# Altium schematic symbol library P6SMB18CA-Q.SchLib: 1 symbol
Pins are listed as number, name and electrical type; pins without a type are passive.

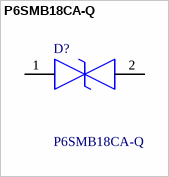
[diagram p0: symbol P6SMB18CA-Q]

## P6SMB18CA-Q
designator D?
P6SMB-Q Transient Voltage Suppressor Diode Series, Bi-Directional; Manufacturer_Name: Bourns; Geometry.Height: 2.44mm; Mouser Part Number: 652-P6SMB18CA-Q; Mouser Price/Stock: https://www.mouser.co.uk/ProductDetail/Bourns/P6SMB18CA-Q?qs=%252B6g0mu59x7J8pA%252B%2FYZXG8Q%3D%3D; Manufacturer_Part_Number: P6SMB18CA-Q; Datasheet Link: https://www.bourns.com/docs/product-datasheets/p6smb-q.pdf?sfvrsn=a8c47bf6_59
footprint DIONM5443X244N
pins: 1, 2